# Altium integrated library ON Semi Signal Management Audio DSP Systems.IntLib: 12 symbols
Pins are listed as number, name and electrical type; pins without a type are passive.

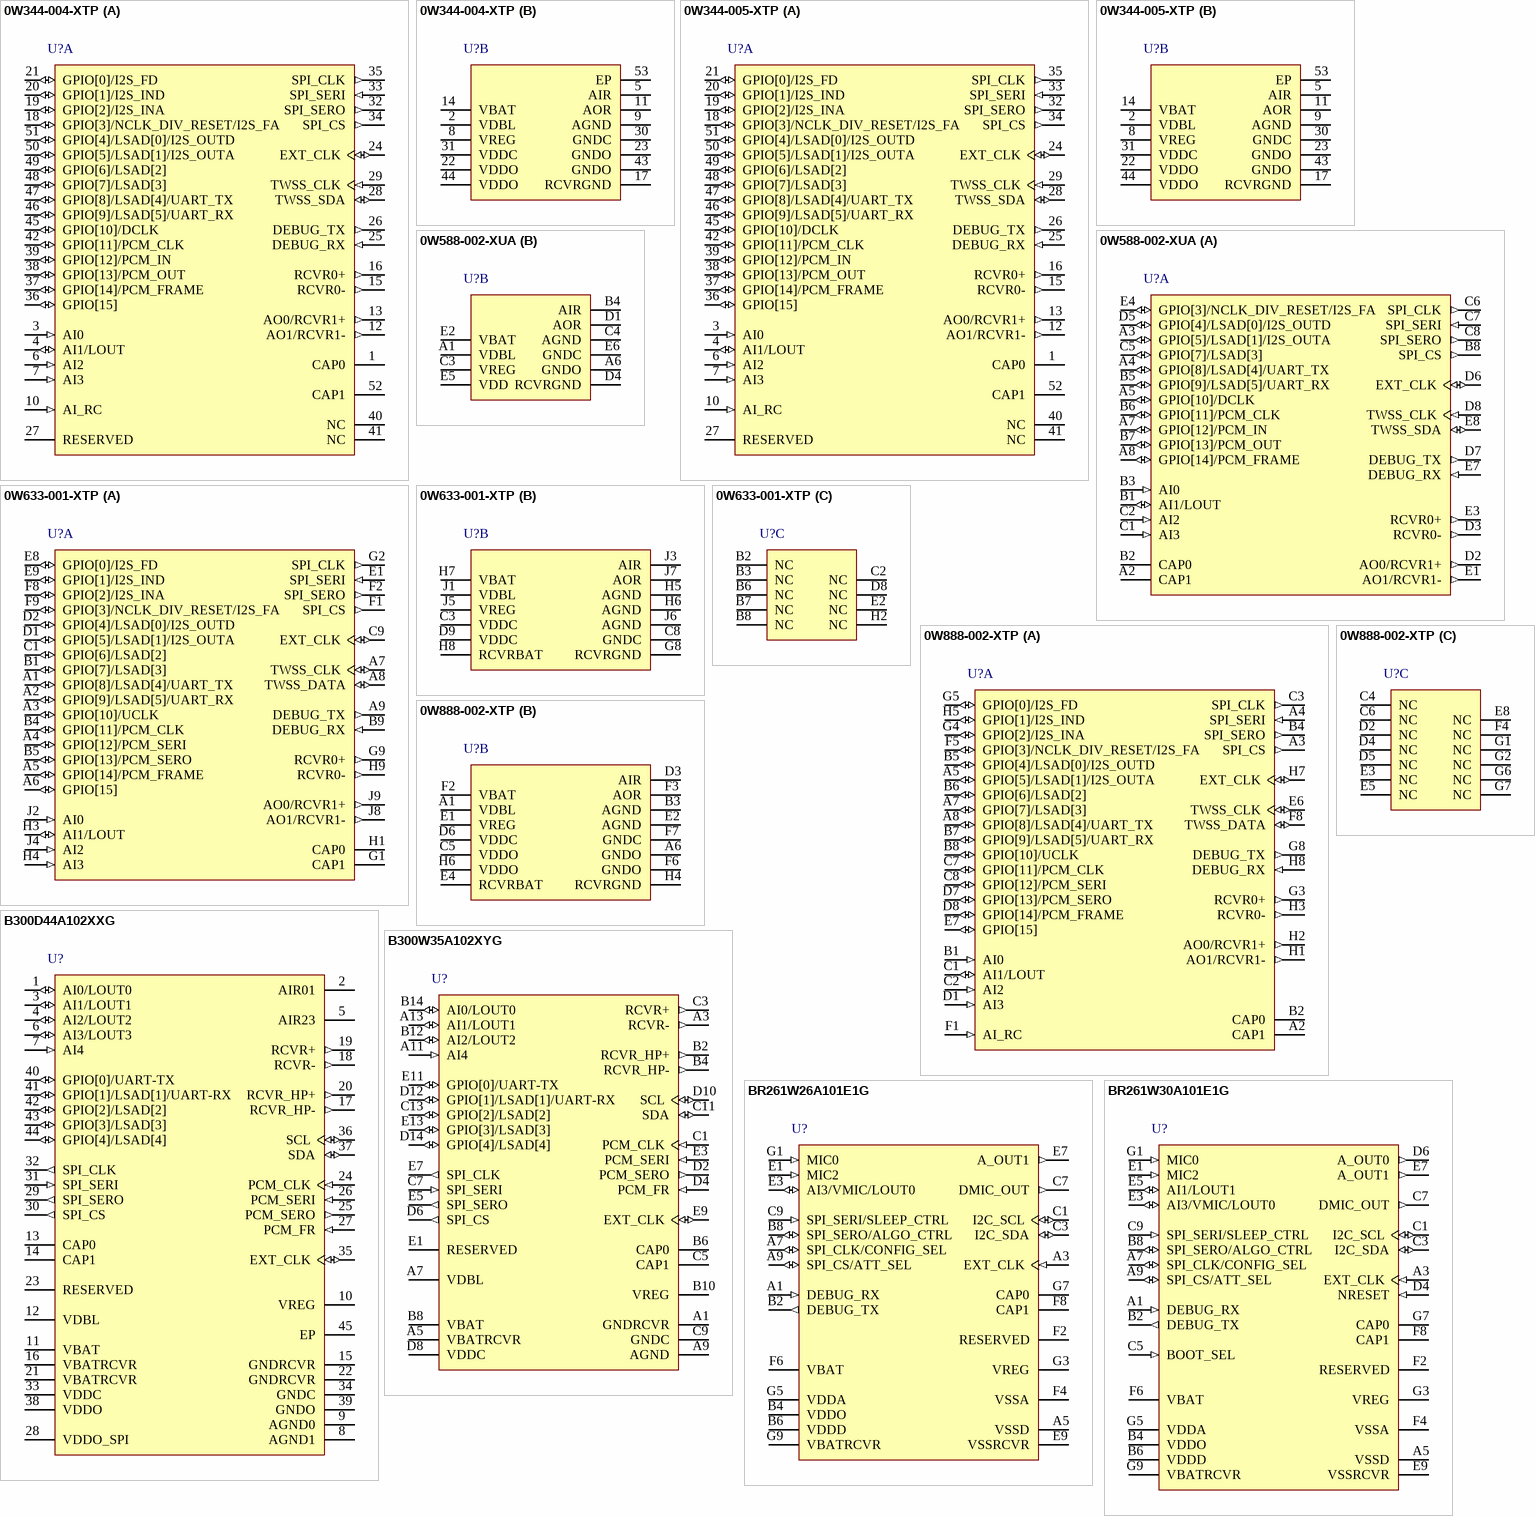
[diagram p0: symbols 0W344-004-XTP to BR261W30A101E1G]

## 0W344-004-XTP
designator U?
16 Bits DSP, BelaSigna 200, -40 to 85 degC, 52-Pin NQFP, Pb-Free, Tape and Reel; Manufacturer: On Semiconductor; PartNumber: 0W344-004-XTP; Coprocessor Type: WOLA; DSP Core (bits): 16; Dynamic Range (dB): 85; DatasheetVersion: Rev. 16; PackageVersion: Rev. O, 07/2008; PackageReference: NQFP-52-560AB-01; PackageDescription: 52-Pin Quad Flat Package, Body 8 x 8 mm, Pitch 0.5 mm; Supplier 1: Digi-Key; Supplier Part Number 1: 0W344-004-XTP-ND; Supplier 2: Newark; Supplier Part Number 2: 05R9235; Supplier 3: Mouser; Supplier Part Number 3: 863-0W344-004-XTP; Packing: Tape and Reel; RoHS: TRUE; Mounting Technology: Surface Mount; ComponentLink1Description: Manufacturer URL; ComponentLink1URL: http://www.onsemi.com/; ComponentLink2Description: Datasheet; ComponentLink2URL: http://www.onsemi.com/pub/Collateral/BELASIGNA200-D.PDF; ComponentLink3Description: Package Specification; ComponentLink3URL: http://www.onsemi.com/pub_link/Collateral/560AB.PDF
footprint ONSC-NQFP-52-560AB-01_N (QFN, 52-Leads, Body 8x8mm, Pitch 0.5mm, Thermal Pad 5.57x5.57mm, IPC Medium Density)
footprint ONSC-NQFP-52-560AB-01_L (QFN, 52-Leads, Body 8x8mm, Pitch 0.5mm, Thermal Pad 5.57x5.57mm, IPC High Density)
footprint ONSC-NQFP-52-560AB-01_M (QFN, 52-Leads, Body 8x8mm, Pitch 0.5mm, Thermal Pad 5.57x5.57mm, IPC Low Density)
part A pins: 1 CAP0 "Charge pump capacitor pin 0", 3 AI0 (in) "Audio signal input to ADC0", 4 AI1/LOUT (io) "Audio signal input to ADC0/line level output signal from preamp 0", 6 AI2 (in) "Audio signal input to ADC1", 7 AI3 (in) "Audio signal input to ADC1", 10 AI_RC (in) "Remote control input", 12 AO1/RCVR1- (out) "Audio signal output from DAC1/output from direct digital drive 1-", 13 AO0/RCVR1+ (out) "Audio signal output from DAC0/output from direct digital drive 1+", 15 RCVR0- (out) "Output from direct digital drive 0", 16 RCVR0+ (out) "Output from direct digital drive 0", 18 GPIO[3]/NCLK_DIV_RESET/I2S_FA (io) "General-purpose I/O/clock divider reset/I2S interface analog blocks frame output", 19 GPIO[2]/I2S_INA (io) "General-purpose I/O/I2S interface analog blocks input", 20 GPIO[1]/I2S_IND (io) "General-purpose I/O/I2S interface analog blocks input", 21 GPIO[0]/I2S_FD (io) "General-purpose I/O/I2S interface digital blocks frame", 24 EXT_CLK (io) "External clock input/internal clock output", 25 DEBUG_RX (in) "Debug port receive", 26 DEBUG_TX (out) "Debut port transmit", 27 RESERVED, 28 TWSS_SDA (io) "TWSS data", 29 TWSS_CLK (in) "TWSS clock", 32 SPI_SERO (out) "Serial peripheral interface serial data out", 33 SPI_SERI (in) "Serial peripheral interface serial data in", 34 SPI_CS (out) "Serial peripheral interface chip select", 35 SPI_CLK (out) "Serial peripheral interface clock", 36 GPIO[15] (io) "General-purpose I/O", 37 GPIO[14]/PCM_FRAME (io) "General-purpose I/O/PCM interface frame", 38 GPIO[13]/PCM_OUT (io) "General-purpose I/O/PCM interface output", 39 GPIO[12]/PCM_IN (io) "General-purpose I/O/PCM interface input", 40 NC "No connection", 41 NC "No connection", 42 GPIO[11]/PCM_CLK (io) "General-purpose I/O/PCM interface clock", 45 GPIO[10]/DCLK (io) "General-purpose I/O/class D receiver clock", 46 GPIO[9]/LSAD[5]/UART_RX (io) "Low-speed A/D/general-purpose I/O/general-purpose UART receive", 47 GPIO[8]/LSAD[4]/UART_TX (io) "Low-speed A/D input/general-purpose I/O/general-purpose UART transmit", 48 GPIO[7]/LSAD[3] (io) "Low-speed A/D input/general purpose I/P", 49 GPIO[6]/LSAD[2] (io) "Low-speed A/D input/general purpose I/P", 50 GPIO[5]/LSAD[1]/I2S_OUTA (io) "Low-speed A/D inputs/general-purpose I/O/I2S interface analog blocks output", 51 GPIO[4]/LSAD[0]/I2S_OUTD (io) "Low-speed A/D inputs/general-purpose I/O/I2S interface analog blocks output", 52 CAP1 "Charge pump capacitor pin 1"
part B pins: 2 VDBL (power) "Double voltage", 5 AIR (power) "Reference voltage for microphone", 8 VREG (power) "Regulated voltage for microphone bias", 9 AGND (power) "Analog ground", 11 AOR (power) "Reference voltage for DAC", 14 VBAT (power) "Positive power supply", 17 RCVRGND (power) "Receiver return current", 22 VDDO (power) "Digital pads supply input", 23 GNDO (power) "Digital pads ground", 30 GNDC (power) "Core logic ground", 31 VDDC (power) "Core logic, EEPROM and pad supply output", 43 GNDO (power) "Digital pads ground", 44 VDDO (power) "Digital pads supply input", 53 EP

## 0W344-005-XTP
designator U?
16 Bits DSP, BelaSigna 200, -40 to 85 degC, 52-Pin NQFP, Pb-Free, Tape and Reel; Manufacturer: On Semiconductor; PartNumber: 0W344-005-XTP; Coprocessor Type: WOLA; DSP Core (bits): 16; Dynamic Range (dB): 85; DatasheetVersion: Rev. 16; PackageVersion: Rev. O, 07/2008; PackageReference: NQFP-52-560AB-01; PackageDescription: 52-Pin Quad Flat Package, Body 8 x 8 mm, Pitch 0.5 mm; Supplier 1: Digi-Key; Supplier Part Number 1: 0W344-005-XTP-ND; Supplier 2: Newark; Supplier Part Number 2: 05R9236; Supplier 3: Mouser; Supplier Part Number 3: 863-0W344-005-XTP; Packing: Tape and Reel; RoHS: TRUE; Mounting Technology: Surface Mount; ComponentLink1Description: Manufacturer URL; ComponentLink1URL: http://www.onsemi.com/; ComponentLink2Description: Datasheet; ComponentLink2URL: http://www.onsemi.com/pub/Collateral/BELASIGNA200-D.PDF; ComponentLink3Description: Package Specification; ComponentLink3URL: http://www.onsemi.com/pub_link/Collateral/560AB.PDF
footprint ONSC-NQFP-52-560AB-01_N (QFN, 52-Leads, Body 8x8mm, Pitch 0.5mm, Thermal Pad 5.57x5.57mm, IPC Medium Density)
footprint ONSC-NQFP-52-560AB-01_L (QFN, 52-Leads, Body 8x8mm, Pitch 0.5mm, Thermal Pad 5.57x5.57mm, IPC High Density)
footprint ONSC-NQFP-52-560AB-01_M (QFN, 52-Leads, Body 8x8mm, Pitch 0.5mm, Thermal Pad 5.57x5.57mm, IPC Low Density)
part A pins: 1 CAP0 "Charge pump capacitor pin 0", 3 AI0 (in) "Audio signal input to ADC0", 4 AI1/LOUT (io) "Audio signal input to ADC0/line level output signal from preamp 0", 6 AI2 (in) "Audio signal input to ADC1", 7 AI3 (in) "Audio signal input to ADC1", 10 AI_RC (in) "Remote control input", 12 AO1/RCVR1- (out) "Audio signal output from DAC1/output from direct digital drive 1-", 13 AO0/RCVR1+ (out) "Audio signal output from DAC0/output from direct digital drive 1+", 15 RCVR0- (out) "Output from direct digital drive 0", 16 RCVR0+ (out) "Output from direct digital drive 0", 18 GPIO[3]/NCLK_DIV_RESET/I2S_FA (io) "General-purpose I/O/clock divider reset/I2S interface analog blocks frame output", 19 GPIO[2]/I2S_INA (io) "General-purpose I/O/I2S interface analog blocks input", 20 GPIO[1]/I2S_IND (io) "General-purpose I/O/I2S interface analog blocks input", 21 GPIO[0]/I2S_FD (io) "General-purpose I/O/I2S interface digital blocks frame", 24 EXT_CLK (io) "External clock input/internal clock output", 25 DEBUG_RX (in) "Debug port receive", 26 DEBUG_TX (out) "Debut port transmit", 27 RESERVED, 28 TWSS_SDA (io) "TWSS data", 29 TWSS_CLK (in) "TWSS clock", 32 SPI_SERO (out) "Serial peripheral interface serial data out", 33 SPI_SERI (in) "Serial peripheral interface serial data in", 34 SPI_CS (out) "Serial peripheral interface chip select", 35 SPI_CLK (out) "Serial peripheral interface clock", 36 GPIO[15] (io) "General-purpose I/O", 37 GPIO[14]/PCM_FRAME (io) "General-purpose I/O/PCM interface frame", 38 GPIO[13]/PCM_OUT (io) "General-purpose I/O/PCM interface output", 39 GPIO[12]/PCM_IN (io) "General-purpose I/O/PCM interface input", 40 NC "No connection", 41 NC "No connection", 42 GPIO[11]/PCM_CLK (io) "General-purpose I/O/PCM interface clock", 45 GPIO[10]/DCLK (io) "General-purpose I/O/class D receiver clock", 46 GPIO[9]/LSAD[5]/UART_RX (io) "Low-speed A/D/general-purpose I/O/general-purpose UART receive", 47 GPIO[8]/LSAD[4]/UART_TX (io) "Low-speed A/D input/general-purpose I/O/general-purpose UART transmit", 48 GPIO[7]/LSAD[3] (io) "Low-speed A/D input/general purpose I/P", 49 GPIO[6]/LSAD[2] (io) "Low-speed A/D input/general purpose I/P", 50 GPIO[5]/LSAD[1]/I2S_OUTA (io) "Low-speed A/D inputs/general-purpose I/O/I2S interface analog blocks output", 51 GPIO[4]/LSAD[0]/I2S_OUTD (io) "Low-speed A/D inputs/general-purpose I/O/I2S interface analog blocks output", 52 CAP1 "Charge pump capacitor pin 1"
part B pins: 2 VDBL (power) "Double voltage", 5 AIR (power) "Reference voltage for microphone", 8 VREG (power) "Regulated voltage for microphone bias", 9 AGND (power) "Analog ground", 11 AOR (power) "Reference voltage for DAC", 14 VBAT (power) "Positive power supply", 17 RCVRGND (power) "Receiver return current", 22 VDDO (power) "Digital pads supply input", 23 GNDO (power) "Digital pads ground", 30 GNDC (power) "Core logic ground", 31 VDDC (power) "Core logic, EEPROM and pad supply output", 43 GNDO (power) "Digital pads ground", 44 VDDO (power) "Digital pads supply input", 53 EP

## 0W588-002-XUA
designator U?
16 Bits DSP, BelaSigna 200, -40 to 85 degC, 40-Pin WLCSP, Pb-Free, Tape and Reel; Manufacturer: On Semiconductor; PartNumber: 0W588-002-XUA; Coprocessor Type: WOLA; DSP Core (bits): 16; Dynamic Range (dB): 85; DatasheetVersion: Rev. 16; PackageReference: WLCSP-40; PackageDescription: 40-Ball Wafer Level Chip Scale Package, Body 3.722 x 2.3 mm, Pitch 0.45 mm; Supplier 1: Mouser; Supplier Part Number 1: 863-0W588-002-XUA; Packing: Tape and Reel; RoHS: TRUE; Mounting Technology: Surface Mount; Code_JEDEC: 22-A113D; ComponentLink1Description: Manufacturer URL; ComponentLink1URL: http://www.onsemi.com/; ComponentLink2Description: Datasheet; ComponentLink2URL: http://www.onsemi.com/pub/Collateral/BELASIGNA200-D.PDF; ComponentLink3Description: Package Specification; ComponentLink3URL: http://www.onsemi.com/pub_link/Collateral/BELASIGNA200-D.PDF
footprint ONSC-WLCSP-40 (BGA, 40-Balls, Body 3.72x2.3mm, Pitch 0.45mm)
part A pins: A2 CAP1 "Charge pump capacitor pin 1", A3 GPIO[5]/LSAD[1]/I2S_OUTA (io) "Low-speed A/D inputs/general-purpose I/O/I2S interface analog blocks output", A4 GPIO[8]/LSAD[4]/UART_TX (io) "Low-speed A/D input/general-purpose I/O/general-purpose UART transmit", A5 GPIO[10]/DCLK (io) "General-purpose I/O/class D receiver clock", A7 GPIO[12]/PCM_IN (io) "General-purpose I/O/PCM interface input", A8 GPIO[14]/PCM_FRAME (io) "General-purpose I/O/PCM interface frame", B1 AI1/LOUT (io) "Audio signal input to ADC0/line level output signal from preamp 0", B2 CAP0 "Charge pump capacitor pin 0", B3 AI0 (in) "Audio signal input to ADC0", B5 GPIO[9]/LSAD[5]/UART_RX (io) "Low-speed A/D/general-purpose I/O/general-purpose UART receive", B6 GPIO[11]/PCM_CLK (io) "General-purpose I/O/PCM interface clock", B7 GPIO[13]/PCM_OUT (io) "General-purpose I/O/PCM interface output", B8 SPI_CS (out) "Serial peripheral interface chip select", C1 AI3 (in) "Audio signal input to ADC1", C2 AI2 (in) "Audio signal input to ADC1", C5 GPIO[7]/LSAD[3] (io) "Low-speed A/D input/general-purpose I/O", C6 SPI_CLK (out) "Serial peripheral interface clock", C7 SPI_SERI (in) "Serial peripheral interface serial data in", C8 SPI_SERO (out) "Serial peripheral interface serial data out", D2 AO0/RCVR1+ (out) "Audio signal output from DAC0/output from direct digital drive 1+", D3 RCVR0- (out) "Output from direct digital drive 0", D5 GPIO[4]/LSAD[0]/I2S_OUTD (io) "Low-speed A/D inputs/general-purpose I/O/I2S interface analog blocks output", D6 EXT_CLK (io) "External clock input/internal clock output", D7 DEBUG_TX (out) "Debut port transmit", D8 TWSS_CLK (in) "TWSS clock", E1 AO1/RCVR1- (out) "Audio signal output from DAC1/output from direct digital drive 1-", E3 RCVR0+ (out) "Output from direct digital drive 0", E4 GPIO[3]/NCLK_DIV_RESET/I2S_FA (io) "General-purpose I/O/clock divider reset/I2S interface analog blocks frame output", E7 DEBUG_RX (in) "Debug port receive", E8 TWSS_SDA (io) "TWSS data"
part B pins: A1 VDBL (power) "Double voltage", A6 GNDO (power) "Digital pads ground", B4 AIR (power) "Reference voltage for microphone", C3 VREG (power) "Regulated voltage for microphone bias", C4 AGND (power) "Analog ground", D1 AOR (power) "Reference voltage for DAC", D4 RCVRGND (power) "Receiver return current", E2 VBAT (power) "Positive power supply", E5 VDD (power) "Core logic, EEPROM and pad supply", E6 GNDC (power) "Core logic and pads ground"

## 0W633-001-XTP
designator U?
16 Bits DSP, High-Performance Programmable Audio Processing System, -40 to 85 degC, 57-Pin LFBGA, Pb-Free, Tape and Reel; Manufacturer: On Semiconductor; PartNumber: 0W633-001-XTP; Coprocessor Type: WOLA; DSP Core (bits): 16; Dynamic Range (dB): 88; DatasheetVersion: Rev. 9; PackageVersion: Rev. B, 02/2012; PackageReference: LFBGA-57-566AA; PackageDescription: 57-Ball Low Fine-Line Ball Grid Array, Body 5 x 5 mm, Pitch 0.5 mm; Supplier 1: Digi-Key; Supplier Part Number 1: 0W633-001-XTP-ND; Supplier 2: Newark; Supplier Part Number 2: 05R9238; Supplier 3: Mouser; Supplier Part Number 3: 863-0W633-001-XTP; Packing: Tape and Reel; RoHS: TRUE; Mounting Technology: Surface Mount; ComponentLink1Description: Manufacturer URL; ComponentLink1URL: http://www.onsemi.com/; ComponentLink2Description: Datasheet; ComponentLink2URL: http://www.onsemi.com/pub_link/Collateral/BELASIGNA250-D.PDF; ComponentLink3Description: Package Specification; ComponentLink3URL: http://www.onsemi.com/pub_link/Collateral/566AA.PDF
footprint ONSC-LFBGA-57-566AA (BGA, 57-Balls, Body 5x5mm, Pitch 0.5mm)
part A pins: A1 GPIO[8]/LSAD[4]/UART_TX (io) "General-purpose input or output / low-speed A/D input / UART output", A2 GPIO[9]/LSAD[5]/UART_RX (io) "General-purpose input or output / low-speed A/D input / UART input", A3 GPIO[10]/UCLK (io) "General-purpose input or output / user clock", A4 GPIO[12]/PCM_SERI (io) "General-purpose input or output / PCM serial input", A5 GPIO[14]/PCM_FRAME (io) "General-purpose input or output / PCM frame", A6 GPIO[15] (io) "General-purpose input or output", A7 TWSS_CLK (io) "Two-wire synchronous serial clock", A8 TWSS_DATA (io) "Two-wire synchronous serial data", A9 DEBUG_TX (out) "RS-232 serial output", B1 GPIO[7]/LSAD[3] (io) "General-purpose input or output / low-speed A/D input", B4 GPIO[11]/PCM_CLK (io) "General-purpose input or output / PCM clock", B5 GPIO[13]/PCM_SERO (io) "General-purpose input or output / PCM serial output", B9 DEBUG_RX (in) "RS-232 serial input", C1 GPIO[6]/LSAD[2] (io) "General-purpose input or output / low-speed A/D input", C9 EXT_CLK (io) "External clock input / internal clock output", D1 GPIO[5]/LSAD[1]/I2S_OUTA (io) "General-purpose input or output / low-speed A/D input / I2S analog output", D2 GPIO[4]/LSAD[0]/I2S_OUTD (io) "General-purpose input or output / low-speed A/D input / I2S digital output", E1 SPI_SERI (in) "SPI serial input", E8 GPIO[0]/I2S_FD (io) "General-purpose input or output / I2S digital frame", E9 GPIO[1]/I2S_IND (io) "General-purpose input or output / I2S digital input", F1 SPI_CS (out) "SPI chip select", F2 SPI_SERO (out) "SPI serial output", F8 GPIO[2]/I2S_INA (io) "General-purpose input or output / I2S analog input", F9 GPIO[3]/NCLK_DIV_RESET/I2S_FA (io) "General-purpose input or output / I2S analog frame", G1 CAP1 "Charge pump capacitor connection", G2 SPI_CLK (out) "SPI Clock", G9 RCVR0+ (out) "Digital output 0 positive output", H1 CAP0 "Charge pump capacitor connection", H3 AI1/LOUT (io) "Microphone input / line-out audio output", H4 AI3 (in) "Microphone input", H9 RCVR0- (out) "Digital output 0 negative output", J2 AI0 (in) "Microphone input", J4 AI2 (in) "Microphone input", J8 AO1/RCVR1- (out) "Analog output 1 / digital output 1 negative output", J9 AO0/RCVR1+ (out) "Analog output 0 / digital output 1 positive output"
part B pins: C3 VDDC (power) "Digital core power supply", C8 GNDC (power) "Digital core ground", D9 VDDC (power) "Digital core power supply", G8 RCVRGND (power) "Digital output ground", H5 AGND (power) "Analog ground", H6 AGND (power) "Analog ground", H7 VBAT (power) "Power supply", H8 RCVRBAT (power) "Digital output power supply", J1 VDBL (power) "Doubled voltage output", J3 AIR (power) "Audio input reference", J5 VREG (power) "Regulated microphone power supply", J6 AGND (power) "Analog ground", J7 AOR (power) "Analog output reference"
part C pins: B2 NC, B3 NC, B6 NC, B7 NC, B8 NC, C2 NC, D8 NC, E2 NC, H2 NC

## 0W888-002-XTP
designator U?
16 Bits DSP, High-Performance Programmable Audio Processing System, -40 to 85 degC, 64-Pin LFBGA, Pb-Free, Tape and Reel; Manufacturer: On Semiconductor; PartNumber: 0W888-002-XTP; Coprocessor Type: WOLA; DSP Core (bits): 16; Dynamic Range (dB): 88; DatasheetVersion: Rev. 9; PackageVersion: Rev. O; PackageReference: LFBGA-64-504-01; PackageDescription: 64-Ball Low Fine-Line Ball Grid Array, Body 7 x 7 mm, Pitch 0.8 mm; Supplier 1: Digi-Key; Supplier Part Number 1: 0W888-002-XTP-ND; Supplier 2: Newark; Supplier Part Number 2: 05R9239; Supplier 3: Mouser; Supplier Part Number 3: 863-0W888-002-XTP; Packing: Tape and Reel; RoHS: TRUE; Mounting Technology: Surface Mount; ComponentLink1Description: Manufacturer URL; ComponentLink1URL: http://www.onsemi.com/; ComponentLink2Description: Datasheet; ComponentLink2URL: http://www.onsemi.com/pub_link/Collateral/BELASIGNA250-D.PDF; ComponentLink3Description: Package Specification; ComponentLink3URL: http://www.onsemi.com/pub_link/Collateral/BELASIGNA250-D.PDF
footprint ONSC-LFBGA-64-504-01 (BGA, 64-Balls, Body 7x7mm, Pitch 0.8mm)
part A pins: A2 CAP1 "Charge pump capacitor connection", A3 SPI_CS (out) "SPI chip select", A4 SPI_SERI (in) "SPI serial input", A5 GPIO[5]/LSAD[1]/I2S_OUTA (io) "General-purpose input or output / low-speed A/D input / I2S analog output", A7 GPIO[7]/LSAD[3] (io) "General-purpose input or output / low-speed A/D input", A8 GPIO[8]/LSAD[4]/UART_TX (io) "General-purpose input or output / low-speed A/D input / UART output", B1 AI0 (in) "Microphone input", B2 CAP0 "Charge pump capacitor connection", B4 SPI_SERO (out) "SPI serial output", B5 GPIO[4]/LSAD[0]/I2S_OUTD (io) "General-purpose input or output / low-speed A/D input / I2S digital output", B6 GPIO[6]/LSAD[2] (io) "General-purpose input or output / low-speed A/D input", B7 GPIO[9]/LSAD[5]/UART_RX (io) "General-purpose input or output / low-speed A/D input / UART input", B8 GPIO[10]/UCLK (io) "General-purpose input or output / user clock", C1 AI1/LOUT (io) "Microphone input / line-out audio output", C2 AI2 (in) "Microphone input", C3 SPI_CLK (out) "SPI clock", C7 GPIO[11]/PCM_CLK (io) "General-purpose input or output / PCM clock", C8 GPIO[12]/PCM_SERI (io) "General-purpose input or output / PCM serial input", D1 AI3 (in) "Microphone input", D7 GPIO[13]/PCM_SERO (io) "General-purpose input or output / PCM serial output", D8 GPIO[14]/PCM_FRAME (io) "General-purpose input or output / PCM frame", E6 TWSS_CLK (io) "Two-wire synchronous serial clock", E7 GPIO[15] (io) "General-purpose input or output", F1 AI_RC (in) "Remote control input", F5 GPIO[3]/NCLK_DIV_RESET/I2S_FA (io) "General-purpose input or output / I2S analog frame", F8 TWSS_DATA (io) "Two-wire synchronous serial data", G3 RCVR0+ (out) "Digital output 0 positive output", G4 GPIO[2]/I2S_INA (io) "General-purpose input or output / I2S analog input", G5 GPIO[0]/I2S_FD (io) "General-purpose input or output / I2S digital frame", G8 DEBUG_TX (out) "RS-232 serial output", H1 AO1/RCVR1- (out) "Analog output 1 / digital output 1 negative output", H2 AO0/RCVR1+ (out) "Analog output 0 / digital output 1 positive output", H3 RCVR0- (out) "Digital output 0 negative output", H5 GPIO[1]/I2S_IND (io) "General-purpose input or output / I2S digital input", H7 EXT_CLK (io) "External clock input / output", H8 DEBUG_RX (in) "RS-232 serial input"
part B pins: A1 VDBL (power) "Doubled voltage output", A6 GNDO (power) "Digital pads ground", B3 AGND (power) "Analog ground", C5 VDDO (power) "Digital pads power supply", D3 AIR (power) "Audio input reference", D6 VDDC (power) "Digital core power supply", E1 VREG (power) "Microphone power supply", E2 AGND (power) "Analog ground", E4 RCVRBAT (power) "Digital output power supply", F2 VBAT (power) "Power supply", F3 AOR (power) "Analog output reference", F6 GNDO (power) "Digital pads ground", F7 GNDC (power) "Digital core ground", H4 RCVRGND (power) "Digital output ground", H6 VDDO (power) "Digital pads power supply"
part C pins: C4 NC, C6 NC, D2 NC, D4 NC, D5 NC, E3 NC, E5 NC, E8 NC, F4 NC, G1 NC, G2 NC, G6 NC, G7 NC

## B300D44A102XXG
designator U?
24 Bits DSP, Audio Processor for Portable Communication Devices, -40 to 85 degC, 44-Pin DFN, Pb-Free, Tape and Reel; Manufacturer: On Semiconductor; PartNumber: B300D44A102XXG; Coprocessor Type: HEAR; DSP Core (bits): 24; Dynamic Range (dB): 110; DatasheetVersion: Rev. 7; PackageVersion: Rev. O, 06/2010; PackageReference: DFN-44-506BU-01; PackageDescription: 44-Pin Small Outline No-Lead, Body 8.9 x 5 mm, Pitch 0.4 mm; Supplier 1: Digi-Key; Supplier Part Number 1: B300D44A102XXGOSTR-ND; Supplier 2: Digi-Key; Supplier Part Number 2: B300D44A102XXGOSCT-ND; Supplier 3: Digi-Key; Supplier Part Number 3: B300D44A102XXGOSDKR-ND; Supplier 4: Newark; Supplier Part Number 4: 52T7598; Supplier 5: Mouser; Supplier Part Number 5: 863-B300D44A102XXG; Packing: Tape and Reel; RoHS: TRUE; Mounting Technology: Surface Mount; ComponentLink1Description: Manufacturer URL; ComponentLink1URL: http://www.onsemi.com/; ComponentLink2Description: Datasheet; ComponentLink2URL: http://www.onsemi.com/pub_link/Collateral/BELASIGNA300-D.PDF; ComponentLink3Description: Package Specification; ComponentLink3URL: http://www.onsemi.com/pub_link/Collateral/506BU.PDF
footprint ONSC-DFN-44-506BU-01_V (SON, 44-Leads, Body 8.9x5mm, Pitch 0.4mm, Thermal Pad 8.4x3.7mm)
pins: 1 AI0/LOUT0 (io), 2 AIR01 "Input stage reference for channels 0 and 1", 3 AI1/LOUT1 (io), 4 AI2/LOUT2 (io), 5 AIR23 "Input stage reference for channels 2 and 3", 6 AI3/LOUT3 (io), 7 AI4 (in) "Audio signal input 4", 8 AGND1 (power) "Analog ground 1", 9 AGND0 (power) "Analog ground 0", 10 VREG (power) "Regulated supply voltage", 11 VBAT (power) "Power supply", 12 VDBL (power) "Doubled voltage", 13 CAP0 "Charge pump capacitor pin 0", 14 CAP1 "Charge pump capacitor pin 1", 15 GNDRCVR (power) "Ground for output driver", 16 VBATRCVR (power) "Power supply for output stage", 17 RCVR_HP- (out) "Extra output driver pad for high power mode", 18 RCVR- (out) "Output from output driver", 19 RCVR+ (out) "Output from output driver", 20 RCVR_HP+ (out) "Extra output driver pad for high power mode", 21 VBATRCVR (power) "Power supply for output stage", 22 GNDRCVR (power) "Ground for output driver", 23 RESERVED "Reserved", 24 PCM_CLK (in) "PCM interface clock", 25 PCM_SERO (out) "PCM interface output", 26 PCM_SERI (in) "PCM interface input", 27 PCM_FR (in) "PCM interface frame", 28 VDDO_SPI (power) "Supply for SPI interface I/O", 29 SPI_SERO (out) "Serial peripheral interface output", 30 SPI_CS (out) "Serial peripheral interface chip select", 31 SPI_SERI (in) "Serial peripheral interface input", 32 SPI_CLK (out) "Serial peripheral interface clock", 33 VDDC (power) "Core logic power", 34 GNDC (power) "Core logic ground", 35 EXT_CLK (io) "External clock input/internal clock output", 36 SCL (io) "I2C clock", 37 SDA (io) "I2C data", 38 VDDO (power) "Digital power", 39 GNDO (power) "Digital ground", 40 GPIO[0]/UART-TX (io), 41 GPIO[1]/LSAD[1]/UART-RX (io), 42 GPIO[2]/LSAD[2] (io), 43 GPIO[3]/LSAD[3] (io), 44 GPIO[4]/LSAD[4] (io), 45 EP

## B300W35A102XYG
designator U?
24 Bits DSP, Audio Processor for Portable Communication Devices, -40 to 85 degC, 35-Pin WLCSP, Pb-Free, Tape and Reel; Manufacturer: On Semiconductor; PartNumber: B300W35A102XYG; Coprocessor Type: HEAR; DSP Core (bits): 24; Dynamic Range (dB): 110; DatasheetVersion: Rev. 7; PackageVersion: Rev. B, 01/2011; PackageReference: WLCSP-35-567AG-01; PackageDescription: 35-Ball Wafer Level Chip Scale Package, Body 2.68 x 3.63 mm; Supplier 1: Digi-Key; Supplier Part Number 1: B300W35A102XYG-ND; Supplier 2: Newark; Supplier Part Number 2: 34R3098; Supplier 3: Mouser; Supplier Part Number 3: 863-B300W35A102XYG; Packing: Tape and Reel; RoHS: TRUE; Mounting Technology: Surface Mount; ComponentLink1Description: Manufacturer URL; ComponentLink1URL: http://www.onsemi.com/; ComponentLink2Description: Datasheet; ComponentLink2URL: http://www.onsemi.com/pub_link/Collateral/BELASIGNA300-D.PDF; ComponentLink3Description: Package Specification; ComponentLink3URL: http://www.onsemi.com/pub_link/Collateral/567AG.PDF
footprint ONSC-WLCSP-35-567AG-01 (BGA, 35-Balls, Body 3.63x2.68mm)
pins: A1 GNDRCVR (power) "Ground for output driver", A3 RCVR- (out) "Output from output driver", A5 VBATRCVR (power) "Power supply for output stage", A7 VDBL (power) "Doubled voltage", A9 AGND (power) "Analog ground", A11 AI4 (in) "Audio signal input 4", A13 AI1/LOUT1 (io), B2 RCVR_HP+ (out) "Extra output driver pad for high power mode", B4 RCVR_HP- (out) "Extra output driver pad for high power mode", B6 CAP0 "Charge pump capacitor pin 0", B8 VBAT (power) "Power supply", B10 VREG (power) "Regulated supply voltage", B12 AI2/LOUT2 (io), B14 AI0/LOUT0 (io), C1 PCM_CLK (in) "PCM interface clock", C3 RCVR+ (out) "Output from output driver", C5 CAP1 "Charge pump capacitor pin 1", C7 SPI_SERI (in) "Serial peripheral interface input", C9 GNDC (power) "Digital ground", C11 SDA (io) "I2C data", C13 GPIO[2]/LSAD[2] (io), D2 PCM_SERO (out) "PCM interface output", D4 PCM_FR (in) "PCM interface frame", D6 SPI_CS (out) "Serial peripheral interface chip select", D8 VDDC (power) "Core logic power", D10 SCL (io) "I2C clock", D12 GPIO[1]/LSAD[1]/UART-RX (io), D14 GPIO[4]/LSAD[4] (io), E1 RESERVED "Reserved", E3 PCM_SERI (in) "PCM interface input", E5 SPI_SERO (out) "Serial peripheral interface output", E7 SPI_CLK (out) "Serial peripheral interface clock", E9 EXT_CLK (io) "External clock input/internal clock output", E11 GPIO[0]/UART-TX (io), E13 GPIO[3]/LSAD[3] (io)

## BR261W26A101E1G
designator U?
16 Bits DSP, Advanced Noise Reduction Solution for Voice Capture Devices, -40 to 85 degC, 26-Pin WLCSP, Pb-Free, Tape and Reel; Manufacturer: On Semiconductor; PartNumber: BR261W26A101E1G; Coprocessor Type: WOLA; DSP Core (bits): 16; Dynamic Range (dB): -78; DatasheetVersion: Rev. 2; PackageVersion: Rev. A, 05/2011; PackageReference: WLCSP-26-567CY-01; PackageDescription: 26-Ball Wafer Level Chip Scale Package, Body 2.388 x 2.233 mm; Supplier 1: Mouser; Supplier Part Number 1: N/A; Packing: Tape and Reel; RoHS: TRUE; Mounting Technology: Surface Mount; ComponentLink1Description: Manufacturer URL; ComponentLink1URL: http://www.onsemi.com/; ComponentLink2Description: Datasheet; ComponentLink2URL: http://www.onsemi.com/pub_link/Collateral/BR261-D.PDF; ComponentLink3Description: Package Specification; ComponentLink3URL: http://www.onsemi.com/pub_link/Collateral/567CY.PDF
footprint ONSC-WLCSP-26-567CY-01 (BGA, 26-Balls, Body 2.39x2.23mm)
pins: A1 DEBUG_RX (in) "RS232 debug port serial input", A3 EXT_CLK (in) "External clock input", A5 VSSD (power) "Digital ground", A7 SPI_CLK/CONFIG_SEL (io) "SPI clock / Configuration selection", A9 SPI_CS/ATT_SEL (io) "SPI chip select / Attenuation selection", B2 DEBUG_TX (out) "RS232 debug port serial output", B4 VDDO (power) "Digital I/O power supply", B6 VDDD (power) "Digital power supply", B8 SPI_SERO/ALGO_CTRL (io) "SPI serial output / Algorithm control", C1 I2C_SCL (io) "I2C clock", C3 I2C_SDA (io) "I2C data", C7 DMIC_OUT (out) "Digital microphone output", C9 SPI_SERI/SLEEP_CTRL (in) "SPI serial input / Sleep mode control", E1 MIC2 (in) "Second microphone input", E3 AI3/VMIC/LOUT0 (io) "Direct audio input / microphone bias / line-out preamp 0", E7 A_OUT1 (out) "Audio output 1", E9 VSSRCVR (power) "Output driver ground", F2 RESERVED "Reserved", F4 VSSA (power) "Analog ground", F6 VBAT (power) "Power supply", F8 CAP1 "Charge pump capacitor connection", G1 MIC0 (in) "First microphone input", G3 VREG (power) "Analog supply voltage", G5 VDDA (power) "Analog supply voltage", G7 CAP0 "Charge pump capacitor connection", G9 VBATRCVR (power) "Output driver power supply"

## BR261W30A101E1G
designator U?
16 Bits DSP, Advanced Noise Reduction Solution for Voice Capture Devices, -40 to 85 degC, 30-Pin WLCSP, Pb-Free, Tape and Reel; Manufacturer: On Semiconductor; PartNumber: BR261W30A101E1G; Coprocessor Type: WOLA; DSP Core (bits): 16; Dynamic Range (dB): -78; DatasheetVersion: Rev. 2; PackageVersion: Rev. B, 10/2011; PackageReference: WLCSP-30-567CT; PackageDescription: 30-Ball Wafer Level Chip Scale Package, Body 2.388 x 2.233 mm; Supplier 1: Mouser; Supplier Part Number 1: N/A; Packing: Tape and Reel; RoHS: TRUE; Mounting Technology: Surface Mount; ComponentLink1Description: Manufacturer URL; ComponentLink1URL: http://www.onsemi.com/; ComponentLink2Description: Datasheet; ComponentLink2URL: http://www.onsemi.com/pub_link/Collateral/BR261-D.PDF; ComponentLink3Description: Package Specification; ComponentLink3URL: http://www.onsemi.com/pub_link/Collateral/567CT.PDF
footprint ONSC-WLCSP-30-567CT (BGA, 30-Balls, Body 2.39x2.23mm)
pins: A1 DEBUG_RX (in) "RS232 debug port serial input", A3 EXT_CLK (in) "External clock input", A5 VSSD (power) "Digital ground", A7 SPI_CLK/CONFIG_SEL (io) "SPI clock / Configuration selection", A9 SPI_CS/ATT_SEL (io) "SPI chip select / Attenuation selection", B2 DEBUG_TX (out) "RS232 debug port serial output", B4 VDDO (power) "Digital I/O power supply", B6 VDDD (power) "Digital power supply", B8 SPI_SERO/ALGO_CTRL (io) "SPI serial output / Algorithm control", C1 I2C_SCL (io) "I2C clock", C3 I2C_SDA (io) "I2C data", C5 BOOT_SEL (in) "Boot selector", C7 DMIC_OUT (out) "Digital microphone output", C9 SPI_SERI/SLEEP_CTRL (in) "SPI serial input / Sleep mode control", D4 NRESET (in) "Reset", D6 A_OUT0 (out) "Audio output 0", E1 MIC2 (in) "Second microphone input", E3 AI3/VMIC/LOUT0 (io) "Direct audio input / microphone bias / line-out preamp 0", E5 AI1/LOUT1 (io) "Direct audio input / line-out preamp 1", E7 A_OUT1 (out) "Audio output 1", E9 VSSRCVR (power) "Output driver ground", F2 RESERVED "Reserved", F4 VSSA (power) "Analog ground", F6 VBAT (power) "Power supply", F8 CAP1 "Charge pump capacitor connection", G1 MIC0 (in) "First microphone input", G3 VREG (power) "Analog supply voltage", G5 VDDA (power) "Analog supply voltage", G7 CAP0 "Charge pump capacitor connection", G9 VBATRCVR (power) "Output driver power supply"

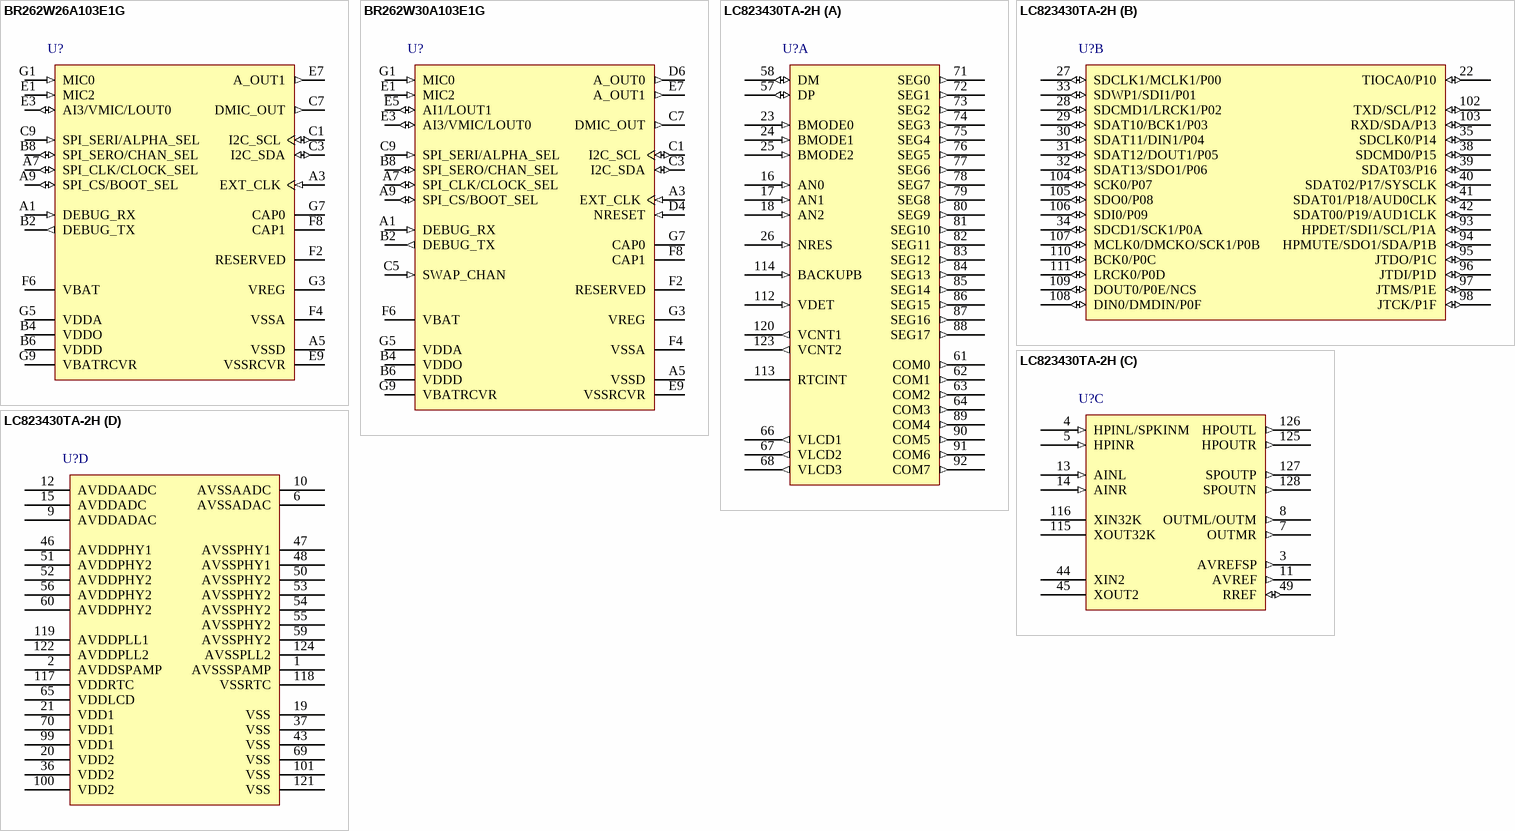
[diagram p1: symbols BR262W26A103E1G to LC823430TA-2H]

## BR262W26A103E1G
designator U?
Wideband Voice Capture and Noise Reduction Solution, -40 to 85 degC, 26-Pin WLCSP, Pb-Free, Tape and Reel; Manufacturer: On Semiconductor; PartNumber: BR262W26A103E1G; Coprocessor Type: WOLA; Dynamic Range (dB): 82.5; DatasheetVersion: Rev. 2; PackageVersion: Rev. A, 05/2011; PackageReference: WLCSP-26-567CY-01; PackageDescription: 26-Ball Wafer Level Chip Scale Package, Body 2.388 x 2.233 mm; Packing: Tape and Reel; RoHS: TRUE; Mounting Technology: Surface Mount; ComponentLink1Description: Manufacturer URL; ComponentLink1URL: http://www.onsemi.com/; ComponentLink2Description: Datasheet; ComponentLink2URL: http://www.onsemi.com/pub/Collateral/BR262-D.PDF; ComponentLink3Description: Package Specification; ComponentLink3URL: http://www.onsemi.com/pub_link/Collateral/567CY.PDF
footprint ONSC-WLCSP-26-567CY-01 (BGA, 26-Balls, Body 2.39x2.23mm)
pins: A1  DEBUG_RX (in) "RS232 debug port serial input", A3 EXT_CLK (in) "External clock input", A5  VSSD (power) "Digital ground", A7 SPI_CLK/CLOCK_SEL (io) "SPI clock / Clock selection", A9  SPI_CS/BOOT_SEL (io) "SPI chip select / Booting method selection", B2  DEBUG_TX (out) "RS232 debug port serial output", B4  VDDO (power) "Digital I/O power supply", B6  VDDD (power) "Digital power supply", B8  SPI_SERO/CHAN_SEL (io) "SPI serial output / Channel selection", C1  I2C_SCL (io) "I2C clock", C3  I2C_SDA (io) "I2C data", C7  DMIC_OUT (out) "Digital microphone output", C9  SPI_SERI/ALPHA_SEL (in) "SPI serial input / Mixing ratio selection", E1  MIC2 (in) "Second microphone input", E3  AI3/VMIC/LOUT0 (io) "Direct audio input / microphone bias / line-out preamp 0", E7  A_OUT1 (out) "Audio output 1", E9  VSSRCVR (power) "Output driver ground", F2  RESERVED "Reserved", F4  VSSA (power) "Analog ground", F6  VBAT (power) "Power supply", F8  CAP1 "Charge pump capacitor connection", G1  MIC0 (in) "First microphone input", G3  VREG (power) "Analog supply voltage", G5  VDDA (power) "Analog supply voltage", G7  CAP0 "Charge pump capacitor connection", G9  VBATRCVR (power) "Output driver power supply"

## BR262W30A103E1G
designator U?
Wideband Voice Capture and Noise Reduction Solution, -40 to 85 degC, 30-Pin WLCSP, Pb-Free, Tape and Reel; Manufacturer: On Semiconductor; PartNumber: BR262W30A103E1G; Coprocessor Type: WOLA; Dynamic Range (dB): 82.5; DatasheetVersion: Rev. 2; PackageVersion: Rev. B, 10/2011; PackageReference: WLCSP-30-567CT; PackageDescription: 30-Ball Wafer Level Chip Scale Package, Body 2.388 x 2.233 mm; Packing: Tape and Reel; RoHS: TRUE; Mounting Technology: Surface Mount; ComponentLink1Description: Manufacturer URL; ComponentLink1URL: http://www.onsemi.com/; ComponentLink2Description: Datasheet; ComponentLink2URL: http://www.onsemi.com/pub/Collateral/BR262-D.PDF; ComponentLink3Description: Package Specification; ComponentLink3URL: http://www.onsemi.com/pub_link/Collateral/567CT.PDF
footprint ONSC-WLCSP-30-567CT (BGA, 30-Balls, Body 2.39x2.23mm)
pins: A1  DEBUG_RX (in) "RS232 debug port serial input", A3 EXT_CLK (in) "External clock input", A5  VSSD (power) "Digital ground", A7 SPI_CLK/CLOCK_SEL (io) "SPI clock / Clock selection", A9  SPI_CS/BOOT_SEL (io) "SPI chip select / Booting method selection", B2  DEBUG_TX (out) "RS232 debug port serial output", B4  VDDO (power) "Digital I/O power supply", B6  VDDD (power) "Digital power supply", B8  SPI_SERO/CHAN_SEL (io) "SPI serial output / Channel selection", C1  I2C_SCL (io) "I2C clock", C3  I2C_SDA (io) "I2C data", C5 SWAP_CHAN (in) "Channel swap control", C7  DMIC_OUT (out) "Digital microphone output", C9  SPI_SERI/ALPHA_SEL (in) "SPI serial input / Mixing ratio selection", D4 NRESET (in) "Reset", D6 A_OUT0 (out) "Audio output 0", E1  MIC2 (in) "Second microphone input", E3  AI3/VMIC/LOUT0 (io) "Direct audio input / microphone bias / line-out preamp 0", E5 AI1/LOUT1 (io) "Direct audio input / line-out preamp 1", E7  A_OUT1 (out) "Audio output 1", E9  VSSRCVR (power) "Output driver ground", F2  RESERVED "Reserved", F4  VSSA (power) "Analog ground", F6  VBAT (power) "Power supply", F8  CAP1 "Charge pump capacitor connection", G1  MIC0 (in) "First microphone input", G3  VREG (power) "Analog supply voltage", G5  VDDA (power) "Analog supply voltage", G7  CAP0 "Charge pump capacitor connection", G9  VBATRCVR (power) "Output driver power supply"

## LC823430TA-2H
designator U?
32 Bits DSP, 1-Chip Audio LSI for MP3 Record and Playback Device, -20 to 75 degC, 128-Pin TQFP, Pb-Free, Tray; Manufacturer: On Semiconductor; PartNumber: LC823430TA-2H; DSP Core (bits): 32; DatasheetVersion: Rev. 1; PackageVersion: Rev. O, 02/2012; PackageReference: TQFP-128-932BA; PackageDescription: 128-Pin Quad Flat Package, Body 14 x 14 mm, Pitch 0.4 mm; Supplier 1: Newark; Supplier Part Number 1: 72W1968; Supplier 2: Mouser; Supplier Part Number 2: 863-LC823430TA-2H; Packing: Tray; RoHS: TRUE; Mounting Technology: Surface Mount; ComponentLink1Description: Manufacturer URL; ComponentLink1URL: http://www.onsemi.com/; ComponentLink2Description: Datasheet; ComponentLink2URL: http://www.onsemi.com/pub_link/Collateral/ENA2171-D.PDF; ComponentLink3Description: Package Specification; ComponentLink3URL: http://www.onsemi.com/pub_link/Collateral/932BA.PDF
footprint ONSC-TQFP-128-932BA_N (QFP, 128-Leads, Body 14x14mm, Pitch 0.4mm, IPC Medium Density)
footprint ONSC-TQFP-128-932BA_L (QFP, 128-Leads, Body 14x14mm, Pitch 0.4mm, IPC High Density)
footprint ONSC-TQFP-128-932BA_M (QFP, 128-Leads, Body 14x14mm, Pitch 0.4mm, IPC Low Density)
part A pins: 16 AN0 (in) "ADC input", 17 AN1 (in) "ADC input", 18 AN2 (in) "ADC input", 23 BMODE0 (in) "Operation mode selection", 24 BMODE1 (in) "Operation mode selection", 25 BMODE2 (in) "Operation mode selection", 26 NRES (in) "External reset and GPIO.LCD driver force input", 57 DP (io) "USB D+ (Device)", 58 DM (io) "USB D- (Device)", 61 COM0 (out) "Common driver output for LCD.", 62 COM1 (out) "Common driver output for LCD.", 63 COM2 (out) "Common driver output for LCD.", 64 COM3 (out) "Common driver output for LCD.", 66 VLCD1 (out) "LCD driver voltage output 1", 67 VLCD2 (out) "LCD driver voltage output 2", 68 VLCD3 (out) "LCD driver voltage output 3", 71 SEG0 (out) "Segment output for LCD", 72 SEG1 (out) "Segment output for LCD", 73 SEG2 (out) "Segment output for LCD", 74 SEG3 (out) "Segment output for LCD", 75 SEG4 (out) "Segment output for LCD", 76 SEG5 (out) "Segment output for LCD", 77 SEG6 (out) "Segment output for LCD", 78 SEG7 (out) "Segment output for LCD", 79 SEG8 (out) "Segment output for LCD", 80 SEG9 (out) "Segment output for LCD", 81 SEG10 (out) "Segment output for LCD", 82 SEG11 (out) "Segment output for LCD", 83 SEG12 (out) "Segment output for LCD", 84 SEG13 (out) "Segment output for LCD", 85 SEG14 (out) "Segment output for LCD", 86 SEG15 (out) "Segment output for LCD", 87 SEG16 (out) "Segment output for LCD", 88 SEG17 (out) "Segment output for LCD", 89 COM4 (out) "COM[7:4], Common driver output for LCD", 90 COM5 (out) "COM[7:4], Common driver output for LCD", 91 COM6 (out) "COM[7:4], Common driver output for LCD", 92 COM7 (out) "COM[7:4], Common driver output for LCD", 112 VDET (in) "Power supply watch comparison input", 113 RTCINT (hiz) "RCT interrupt output", 114 BACKUPB (in) "RTC operation mode selection", 120 VCNT1 (out) "VCO control for PLL1", 123 VCNT2 (out) "VCO control for PLL2"
part B pins: 22 TIOCA0/P10 (io), 27 SDCLK1/MCLK1/P00 (io), 28 SDCMD1/LRCK1/P02 (io), 29 SDAT10/BCK1/P03 (io), 30 SDAT11/DIN1/P04 (io), 31 SDAT12/DOUT1/P05 (io), 32 SDAT13/SDO1/P06 (io), 33 SDWP1/SDI1/P01 (io), 34 SDCD1/SCK1/P0A (io), 35 SDCLK0/P14 (io), 38 SDCMD0/P15 (io), 39 SDAT03/P16 (io), 40 SDAT02/P17/SYSCLK (io), 41 SDAT01/P18/AUD0CLK (io), 42 SDAT00/P19/AUD1CLK (io), 93 HPDET/SDI1/SCL/P1A (io), 94 HPMUTE/SDO1/SDA/P1B (io), 95 JTDO/P1C (io), 96 JTDI/P1D (io), 97 JTMS/P1E (io), 98 JTCK/P1F (io), 102 TXD/SCL/P12 (io), 103 RXD/SDA/P13 (io), 104 SCK0/P07 (io), 105 SDO0/P08 (io), 106 SDI0/P09 (io), 107 MCLK0/DMCKO/SCK1/P0B (io), 108 DIN0/DMDIN/P0F (io), 109 DOUT0/P0E/NCS (io), 110 BCK0/P0C (io) "Operation mode selection", 111 LRCK0/P0D (io)
part C pins: 3 AVREFSP (out) "AB class reference output", 4 HPINL/SPKINM (in), 5 HPINR (in) "Headphone amplifier input (Rch)", 7 OUTMR (out) "Audio DAC PWM output (Rch for HP)", 8 OUTML/OUTM (out), 11 AVREF (out) "Audio ADC reference output", 13 AINL (in) "Analog voice input Lch (stereo). Analog voice input (monaural).", 14 AINR (in) "Analog voice input Rch (stereo)", 44 XIN2 "Oscillation amplifier input for audio (XT2)", 45 XOUT2 "Oscillation amplifier output for audio (XT2)", 49 RREF (io) "Reference resistance for USB PHY.", 115 XOUT32K "32.768kHz oscillation amplifier output (XT1)", 116 XIN32K "32.768kHz oscillation amplifier input (XT1)", 125 HPOUTR (out) "Headphone amplifier output (Rch)", 126 HPOUTL (out) "Headphone amplifier output (Lch)", 127 SPOUTP (out) "AB class speaker amplifier output (+)", 128 SPOUTN (out) "AB class speaker amplifier output (-)"
part D pins: 1 AVSSSPAMP (power) "Analog ground for AB class amplifier", 2 AVDDSPAMP (power) "Analog power supply for AB class amplifier", 6 AVSSADAC (power) "Ground for audio DAC", 9 AVDDADAC (power) "Power supply for audio DAC", 10 AVSSAADC (power) "Ground for audio ADC", 12 AVDDAADC (power) "Power supply for audio ADC", 15 AVDDADC (power) "Power supply for ADC", 19 VSS (power) "Digital ground", 20 VDD2 (power) "Digital IO power supply", 21 VDD1 (power) "Digital internal power supply", 36 VDD2 (power) "Digital IO power supply", 37 VSS (power) "Digital ground", 43 VSS (power) "Digital ground", 46 AVDDPHY1 (power) "Analog 1.5V power supply for USB PHY. It connects VDD1 in LSI (terminal sharing).", 47 AVSSPHY1 (power) "Analog ground for USB PHY.", 48 AVSSPHY1 (power) "Analog ground for USB PHY.", 50 AVSSPHY2 (power) "Analog ground for USB PHY.", 51 AVDDPHY2 (power) "Analog 3.3V power supply for USB PHY.", 52 AVDDPHY2 (power) "Analog 3.3V power supply for USB PHY.", 53 AVSSPHY2 (power) "Analog ground for USB PHY.", 54 AVSSPHY2 (power) "Analog ground for USB PHY.", 55 AVSSPHY2 (power) "Analog ground for USB PHY.", 56 AVDDPHY2 (power) "Analog 3.3V power supply for USB PHY.", 59 AVSSPHY2 (power) "Analog ground for USB PHY.", 60 AVDDPHY2 (power) "Analog 3.3V power supply for USB PHY.", 65 VDDLCD (power) "3V power supply for LCD driver", 69 VSS (power) "Digital ground", 70 VDD1 (power) "Digital internal power supply", 99 VDD1 (power) "Digital internal power supply", 100 VDD2 (power) "Digital IO power supply", 101 VSS (power) "Digital ground", 117 VDDRTC (power) "RTC block power supply.", 118 VSSRTC (power) "RTC ground pin.", 119 AVDDPLL1 (power) "Analog power supply for PLL1", 121 VSS (power) "Digital ground", 122 AVDDPLL2 (power) "Analog power supply for PLL2", 124 AVSSPLL2 (power) "Analog ground for PLL2"